# Altium footprint library LED0805.PcbLib: 4 footprints
Each footprint in its own frame and in the unit in brackets; x right, y up, seen from the top. Pads: shape width x height; smd on the part's side, far side on the other; paste and mask are expansions set on the pad; w line width, h text height; cw(c..) or ccw(c..) is an arc to the next point about the centre after c.
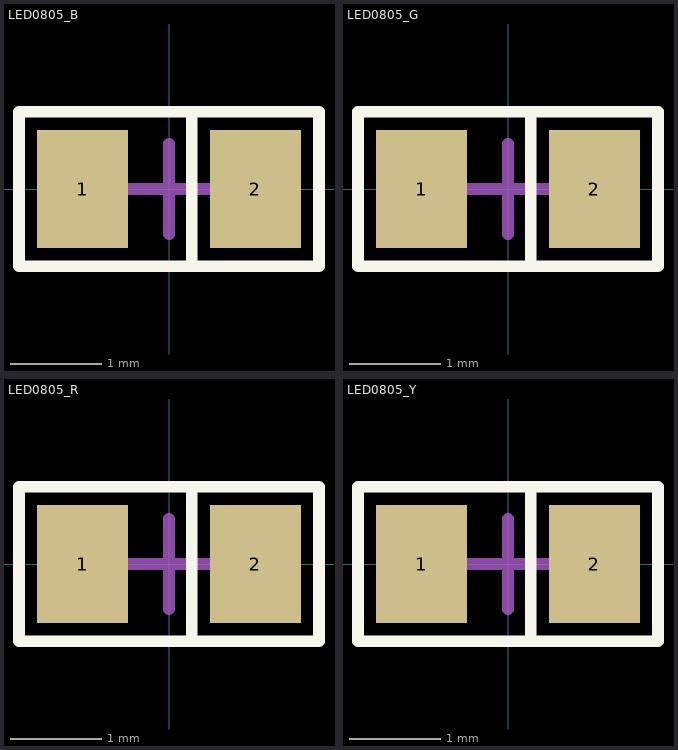
[diagram p0: the footprints below, top view; thin cyan lines are the x and y axes]

## LED0805_B [mm]
height 0.7
pads (2):
  rect 1x1.3 smd: 1(-0.95,0) 2(0.95,0)
Top Overlay:
  lines w0.127: 0.25,-0.848 0.25,0.848 ; -1.65,-0.848 -1.65,0.848 1.65,0.848 1.65,-0.848 -1.65,-0.848
Mechanical 15:
  lines w0.127: -0.5,0 0.5,0 ; 0,-0.5 0,0.5
3D body: height 1.1, standoff 0, extent -1.016,-0.65 1.004,0.6

## LED0805_G [mm]
height 0.7
pads (2):
  rect 1x1.3 smd: 1(-0.95,0) 2(0.95,0)
Top Overlay:
  lines w0.127: 0.25,-0.848 0.25,0.848 ; -1.65,-0.848 -1.65,0.848 1.65,0.848 1.65,-0.848 -1.65,-0.848
Mechanical 15:
  lines w0.127: -0.5,0 0.5,0 ; 0,-0.5 0,0.5
3D body: height 1.1, standoff 0, extent -1.016,-0.65 1.004,0.6

## LED0805_R [mm]
height 0.7
pads (2):
  rect 1x1.3 smd: 1(-0.95,0) 2(0.95,0)
Top Overlay:
  lines w0.127: 0.25,-0.848 0.25,0.848 ; -1.65,-0.848 -1.65,0.848 1.65,0.848 1.65,-0.848 -1.65,-0.848
Mechanical 15:
  lines w0.127: -0.5,0 0.5,0 ; 0,-0.5 0,0.5
3D body: height 1.1, standoff 0, extent -1.016,-0.65 1.004,0.6

## LED0805_Y [mm]
height 0.7
pads (2):
  rect 1x1.3 smd: 1(-0.95,0) 2(0.95,0)
Top Overlay:
  lines w0.127: 0.25,-0.848 0.25,0.848 ; -1.65,-0.848 -1.65,0.848 1.65,0.848 1.65,-0.848 -1.65,-0.848
Mechanical 15:
  lines w0.127: -0.5,0 0.5,0 ; 0,-0.5 0,0.5
3D body: height 1.1, standoff 0, extent -1.016,-0.65 1.004,0.6